# EAGLE library part HC-PM254-8.5H-2X5PW_LCSC (library lcsc_parts)
Description: Female Header 10 Position 2.54mm Pitch Dual Row Through Hole, Right Angle -40℃~+105℃ Manufacturer: Hong Cheng MPN: HC-PM254-8.5H-2x5PW LCSC Part: C22373931 Category: Headers, Receptacles, Female Sockets Datasheet: https://datasheet.lcsc.com/datasheet/pdf/d620f3647f6b780dd061283c2890b44c.pdf?productCode=C22373931
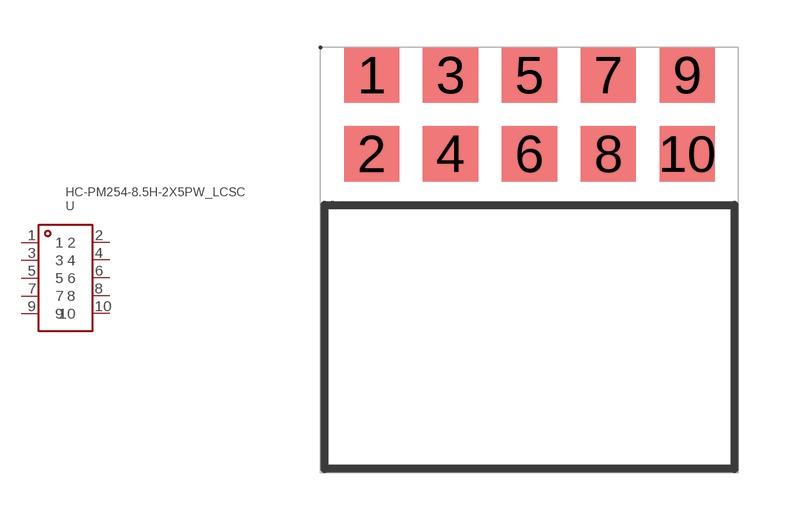
[diagram p21: symbol with the pads of HDR-TH_10P-P2.54-H-F-R2-C5-S2.54-W12.7; footprint HDR-TH_10P-P2.54-H-F-R2-C5-S2.54-W12.7]

Designator prefix U

## HC-PM254-8.5H-2X5PW_LCSC (CATEGORY: Headers, Receptacles, Female Sockets; CIRCULAR_HOLE_SQUARE_HOLE: Square Hole; CONTACT_MATERIAL: Brass; CONTACT_PLATING: Gold; CURRENT_RATING: 3A; DATASHEET: https://datasheet.lcsc.com/datasheet/pdf/d620f3647f6b780dd061283c2890b44c.pdf?productCode=C22373931; DESCRIPTION: Female Header 10 Position 2.54mm Pitch Dual Row Through Hole, Right Angle -40℃~+105℃; HOLES_DIRECTION: Side; HOLES_STRUCTURE: 2x5P; INSULATION_HEIGHT: 5mm; LCSC_PART: C22373931; LCSC_STOCK: 3190; MANUFACTURER: Hong Cheng; MOUNTING_TYPE: Right Angle; MPN: HC-PM254-8.5H-2x5PW; NUMBER_OF_POSITIONS: 10P; NUMBER_OF_ROWS: 2; OPERATING_TEMPERATURE: -40℃~+105℃; PARTNO: HC-PM254-8.5H-2x5PW; PIN_LENGTH: 3mm; PITCH: 2.54mm; PRICING_1000: $0.1049/unit @ 1000; PRICING_50: $0.1424/unit @ 50; ROW_SPACING: 2.54mm)  [HDR-TH_10P-P2.54-H-F-R2-C5-S2.54-W12.7]
1  1
2  2
3  3
4  4
5  5
6  6
7  7
8  8
9  9
10  10

## Footprint HDR-TH_10P-P2.54-H-F-R2-C5-S2.54-W12.7 (pad centres in mm)
smd 1.778 x 1.778: 1 -5.08,1.27; 2 -5.08,-1.27; 3 -2.54,1.27; 4 -2.54,-1.27; 5 0,1.27; 6 0,-1.27; 7 2.54,1.27; 8 2.54,-1.27; 9 5.08,1.27; 10 5.08,-1.27